# Altium footprint library 622 0xx 218 21.PcbLib: 7 footprints
Each footprint in its own frame and in the unit in brackets; x right, y up, seen from the top. Pads: shape width x height; smd on the part's side, far side on the other; paste and mask are expansions set on the pad; w line width, h text height; cw(c..) or ccw(c..) is an arc to the next point about the centre after c.
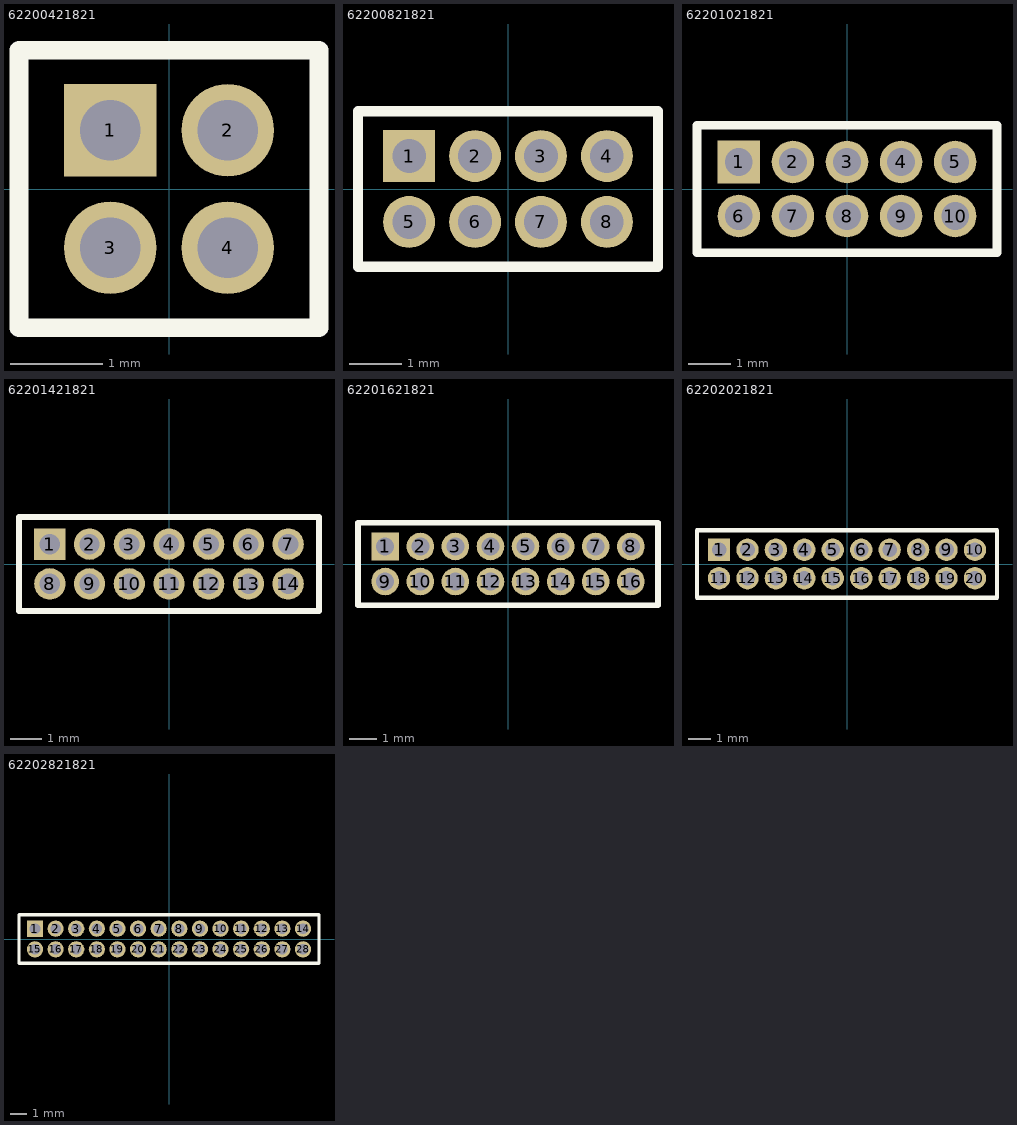
[diagram p0: the footprints below, top view; thin cyan lines are the x and y axes]

## 62200421821 [mm] "4 pins, dual row, straight, gold plating"
height 4.5
pads (4):
  rect 1x1 hole 0.65: 1(-0.635,0.635)
  round 1 hole 0.65: 2(0.635,0.635) 3(-0.635,-0.635) 4(0.635,-0.635)
Top Overlay:
  lines w0.2: -1.62,-1.5 1.62,-1.5 1.62,1.5 -1.62,1.5 -1.62,-1.5
3D body "62200421821.stp": height 4.55, standoff -2.15, extent -1.47,-1.5 1.47,1.5

## 62200821821 [mm] "8 pins, dual row, straight, gold plating"
height 4.5
pads (8):
  rect 1x1 hole 0.65: 1(-1.905,0.635)
  round 1 hole 0.65: 2(-0.635,0.635) 3(0.635,0.635) 4(1.905,0.635) 5(-1.905,-0.635) 6(-0.635,-0.635) 7(0.635,-0.635) 8(1.905,-0.635)
Top Overlay:
  lines w0.2: -2.89,-1.5 2.89,-1.5 2.89,1.5 -2.89,1.5 -2.89,-1.5
3D body "62200821821.stp": height 4.55, standoff -2.15, extent -2.74,-1.5 2.74,1.5

## 62201021821 [mm] "10 pins, dual row, straight, gold plating"
height 4.5
pads (10):
  rect 1x1 hole 0.65: 1(-2.54,0.635)
  round 1 hole 0.65: 2(-1.27,0.635) 3(0,0.635) 4(1.27,0.635) 5(2.54,0.635) 6(-2.54,-0.635) 7(-1.27,-0.635) 8(0,-0.635) 9(1.27,-0.635) 10(2.54,-0.635)
Top Overlay:
  lines w0.2: -3.525,-1.5 -3.525,1.5 3.525,1.5 3.525,-1.5 -3.525,-1.5
3D body "62201021821.stp": height 4.55, standoff -2.15, extent -3.375,-1.5 3.375,1.5

## 62201421821 [mm] "14 pins, dual row, straight, gold plating"
height 4.5
pads (14):
  rect 1x1 hole 0.65: 1(-3.81,0.635)
  round 1 hole 0.65: 2(-2.54,0.635) 3(-1.27,0.635) 4(0,0.635) 5(1.27,0.635) 6(2.54,0.635) 7(3.81,0.635) 8(-3.81,-0.635) 9(-2.54,-0.635) 10(-1.27,-0.635) 11(0,-0.635) 12(1.27,-0.635) 13(2.54,-0.635) 14(3.81,-0.635)
Top Overlay:
  lines w0.2: -4.795,-1.5 4.795,-1.5 4.795,1.5 -4.795,1.5 -4.795,-1.5
3D body "62201421821.stp": height 4.55, standoff -2.15, extent -4.645,-1.5 4.645,1.5

## 62201621821 [mm] "16 pins, dual row, straight, gold plating"
height 4.5
pads (16):
  rect 1x1 hole 0.65: 1(-4.445,0.635)
  round 1 hole 0.65: 2(-3.175,0.635) 3(-1.905,0.635) 4(-0.635,0.635) 5(0.635,0.635) 6(1.905,0.635) 7(3.175,0.635) 8(4.445,0.635) 9(-4.445,-0.635) 10(-3.175,-0.635) 11(-1.905,-0.635) 12(-0.635,-0.635) 13(0.635,-0.635) 14(1.905,-0.635) 15(3.175,-0.635) 16(4.445,-0.635)
Top Overlay:
  lines w0.2: -5.43,-1.5 -5.43,1.5 5.43,1.5 5.43,-1.5 -5.43,-1.5
3D body "62201621821.stp": height 4.55, standoff -2.15, extent -5.28,-1.5 5.28,1.5

## 62202021821 [mm] "20 pins, dual row, straight, gold plating"
height 4.5
pads (20):
  rect 1x1 hole 0.65: 1(-5.715,0.635)
  round 1 hole 0.65: 2(-4.445,0.635) 3(-3.175,0.635) 4(-1.905,0.635) 5(-0.635,0.635) 6(0.635,0.635) 7(1.905,0.635) 8(3.175,0.635) 9(4.445,0.635) 10(5.715,0.635) 11(-5.715,-0.635) 12(-4.445,-0.635) 13(-3.175,-0.635) 14(-1.905,-0.635) 15(-0.635,-0.635) 16(0.635,-0.635) 17(1.905,-0.635) 18(3.175,-0.635) 19(4.445,-0.635) 20(5.715,-0.635)
Top Overlay:
  lines w0.2: -6.7,-1.5 6.7,-1.5 6.7,1.5 -6.7,1.5 -6.7,-1.5
3D body "62202021821.stp": height 4.55, standoff -2.15, extent -6.55,-1.5 6.55,1.5

## 62202821821 [mm] "28 pins, dual row, straight, gold plating"
height 4.5
pads (28):
  rect 1x1 hole 0.65: 1(-8.255,0.635)
  round 1 hole 0.65: 2(-6.985,0.635) 3(-5.715,0.635) 4(-4.445,0.635) 5(-3.175,0.635) 6(-1.905,0.635) 7(-0.635,0.635) 8(0.635,0.635) 9(1.905,0.635) 10(3.175,0.635) 11(4.445,0.635) 12(5.715,0.635) 13(6.985,0.635) 14(8.255,0.635) 15(-8.255,-0.635) 16(-6.985,-0.635) 17(-5.715,-0.635) 18(-4.445,-0.635) 19(-3.175,-0.635) 20(-1.905,-0.635) 21(-0.635,-0.635) 22(0.635,-0.635) 23(1.905,-0.635) 24(3.175,-0.635) 25(4.445,-0.635) 26(5.715,-0.635) 27(6.985,-0.635) 28(8.255,-0.635)
Top Overlay:
  lines w0.2: -9.24,-1.5 -9.24,1.5 9.24,1.5 9.24,-1.5 -9.24,-1.5
3D body "62202821821.stp": height 4.55, standoff -2.15, extent -9.09,-1.5 9.09,1.5